# Altium footprint library XX.PcbLib: 1 footprints
Each footprint in its own frame and in the unit in brackets; x right, y up, seen from the top. Pads: shape width x height; smd on the part's side, far side on the other; paste and mask are expansions set on the pad; w line width, h text height; cw(c..) or ccw(c..) is an arc to the next point about the centre after c.
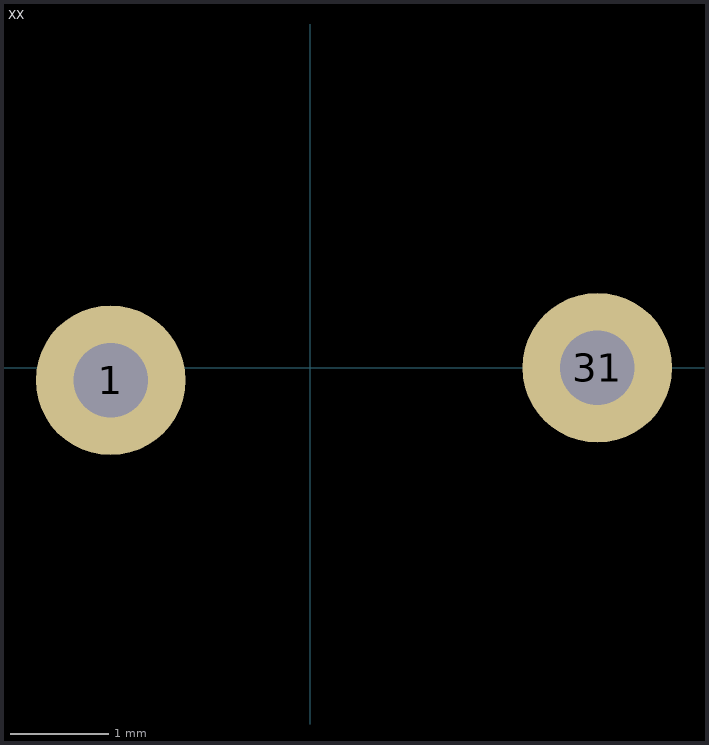
[diagram p0: the footprint, top view; thin cyan lines are the x and y axes]

## XX [mil]
pads (2):
  round 60 hole 30: 1(-80,-5) 31(115,0)
3D body "75244.stp": height 141.82, standoff 0, extent -140.67,-351.3 150.67,144.76